# EAGLE library part 39-30-?14?_S (library con-molex-mini-fit)
HEADER
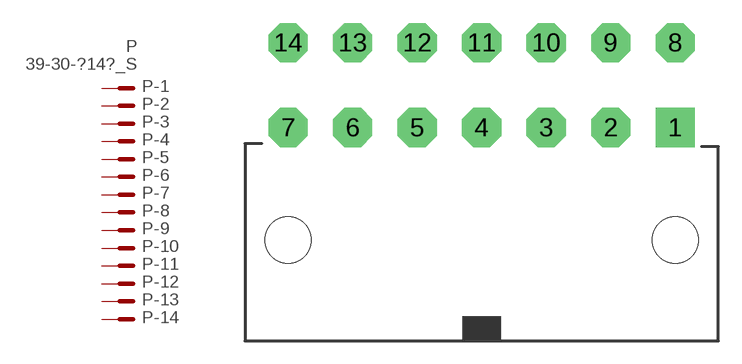
[diagram p14: symbol with the pads of 39-30-?14?; footprint 39-30-?14?]

Designator prefix P; gates -1=P-NV -2=P-N -3=P-N -4=P-N -5=P-N -6=P-N -7=P-N -8=P-N -9=P-N -10=P-N -11=P-N -12=P-N -13=P-N -14=P-N

## 39-30-14_S  [39-30-?14?]
1  -1:P  pas
2  -2:P  pas
3  -3:P  pas
4  -4:P  pas
5  -5:P  pas
6  -6:P  pas
7  -7:P  pas
8  -8:P  pas
9  -9:P  pas
10  -10:P  pas
11  -11:P  pas
12  -12:P  pas
13  -13:P  pas
14  -14:P  pas

## Footprint 39-30-?14? (pad centres in mm)
HEADER
drill 1.422 pad 2.54 square: 1 12.573,0
drill 1.422 pad 2.54 octagon: 2 8.382,0; 3 4.191,0; 4 0,0; 5 -4.191,0; 6 -8.382,0; 7 -12.573,0; 8 12.573,5.512; 9 8.382,5.512; 10 4.191,5.512; 11 0,5.512; 12 -4.191,5.512; 13 -8.382,5.512; 14 -12.573,5.512
hole 3 at -12.573,-7.3
hole 3 at 12.573,-7.3